# EAGLE library part TM4C123BE6PM (library microcontrollers-ti)
TM4C123BE6PM is a cortex-M microcontroller made by Texas Instruments
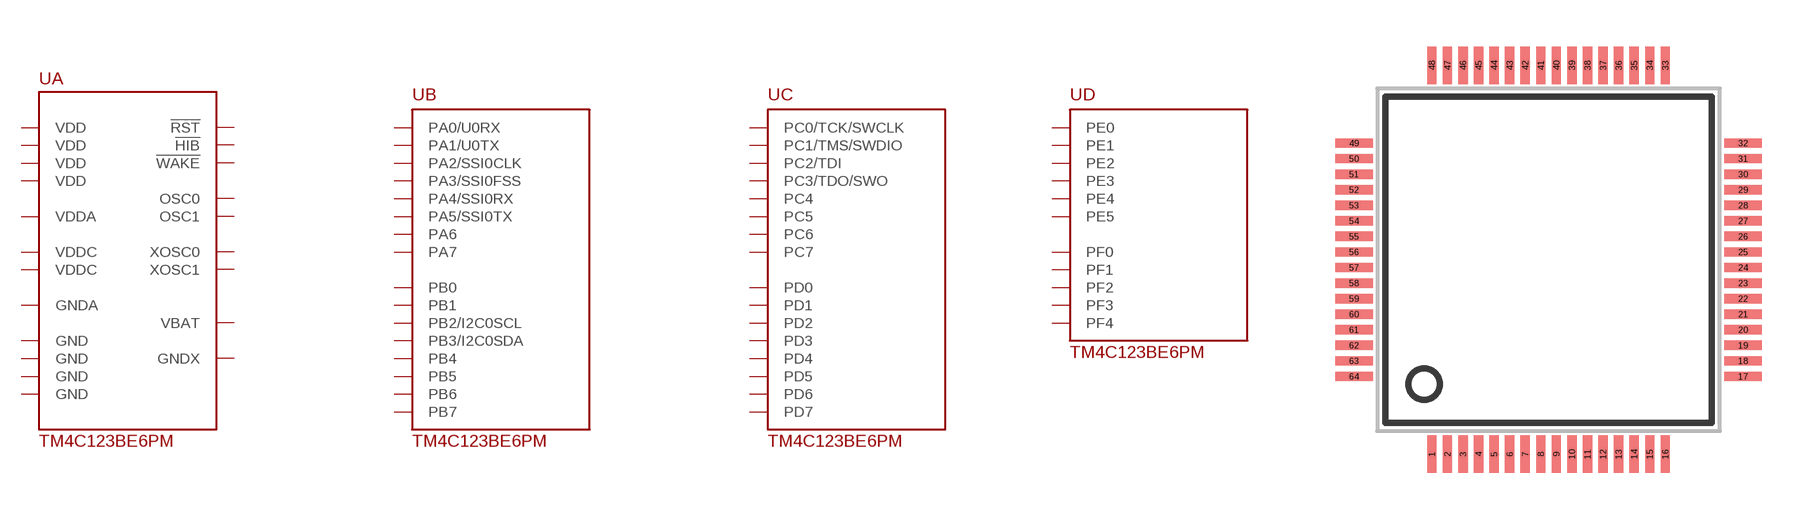
[diagram p0: symbol with the pads of 64LQFP; footprint 64LQFP]

Designator prefix U; gates A=TM4C123BE6PM_POWER B=TM4C123BE6PM_PORTA C=TM4C123BE6PM_PORTC D=TM4C123BE6PM_PORTE

## TM4C123BE6PMSMD (DIGIKEYPART#: 296-35834-ND)  [64LQFP]
1  B:PB6
2  A:VDDA  pwr
3  A:GNDA  pwr
4  B:PB7
5  D:PF4
6  D:PE3
7  D:PE2
8  D:PE1
9  D:PE0
10  C:PD7
11  A:VDD  pwr
12  A:GND  pwr
13  C:PC7
14  C:PC6
15  C:PC5
16  C:PC4
17  B:PA0/U0RX
18  B:PA1/U0TX
19  B:PA2/SSI0CLK
20  B:PA3/SSI0FSS
21  B:PA4/SSI0RX
22  B:PA5/SSI0TX
23  B:PA6
24  B:PA7
25  A:VDDC  pwr
26  A:VDD  pwr
27  A:GND  pwr
28  D:PF0
29  D:PF1
30  D:PF2
31  D:PF3
32  A:!WAKE  in
33  A:!HIB  out
34  A:XOSC0  in
35  A:GNDX  pwr
36  A:XOSC1  out
37  A:VBAT  pwr
38  A:!RST  in
39  A:GND  pwr
40  A:OSC0  in
41  A:OSC1  out
42  A:VDD  pwr
43  C:PD4
44  C:PD5
45  B:PB0
46  B:PB1
47  B:PB2/I2C0SCL
48  B:PB3/I2C0SDA
49  C:PC3/TDO/SWO
50  C:PC2/TDI
51  C:PC1/TMS/SWDIO
52  C:PC0/TCK/SWCLK
53  C:PD6
54  A:VDD  pwr
55  A:GND  pwr
56  A:VDDC  pwr
57  B:PB5
58  B:PB4
59  D:PE4
60  D:PE5
61  C:PD0
62  C:PD1
63  C:PD2
64  C:PD3

## Footprint 64LQFP (pad centres in mm)
Description: this footprint is untested!
smd 0.3 x 1.2: 1 -3.75,-6.25; 2 -3.25,-6.25; 3 -2.75,-6.25; 4 -2.25,-6.25; 5 -1.75,-6.25; 6 -1.25,-6.25; 7 -0.75,-6.25; 8 -0.25,-6.25; 9 0.25,-6.25; 10 0.75,-6.25; 11 1.25,-6.25; 12 1.75,-6.25; 13 2.25,-6.25; 14 2.75,-6.25; 15 3.25,-6.25; 16 3.75,-6.25; 33 3.75,6.25; 34 3.25,6.25; 35 2.75,6.25; 36 2.25,6.25; 37 1.75,6.25; 38 1.25,6.25; 39 0.75,6.25; 40 0.25,6.25; 41 -0.25,6.25; 42 -0.75,6.25; 43 -1.25,6.25; 44 -1.75,6.25; 45 -2.25,6.25; 46 -2.75,6.25; 47 -3.25,6.25; 48 -3.75,6.25
smd 1.2 x 0.3: 17 6.25,-3.75; 18 6.25,-3.25; 19 6.25,-2.75; 20 6.25,-2.25; 21 6.25,-1.75; 22 6.25,-1.25; 23 6.25,-0.75; 24 6.25,-0.25; 25 6.25,0.25; 26 6.25,0.75; 27 6.25,1.25; 28 6.25,1.75; 29 6.25,2.25; 30 6.25,2.75; 31 6.25,3.25; 32 6.25,3.75; 49 -6.25,3.75; 50 -6.25,3.25; 51 -6.25,2.75; 52 -6.25,2.25; 53 -6.25,1.75; 54 -6.25,1.25; 55 -6.25,0.75; 56 -6.25,0.25; 57 -6.25,-0.25; 58 -6.25,-0.75; 59 -6.25,-1.25; 60 -6.25,-1.75; 61 -6.25,-2.25; 62 -6.25,-2.75; 63 -6.25,-3.25; 64 -6.25,-3.75